# EAGLE library part MOLEX-47491-0001 (library Conservify)
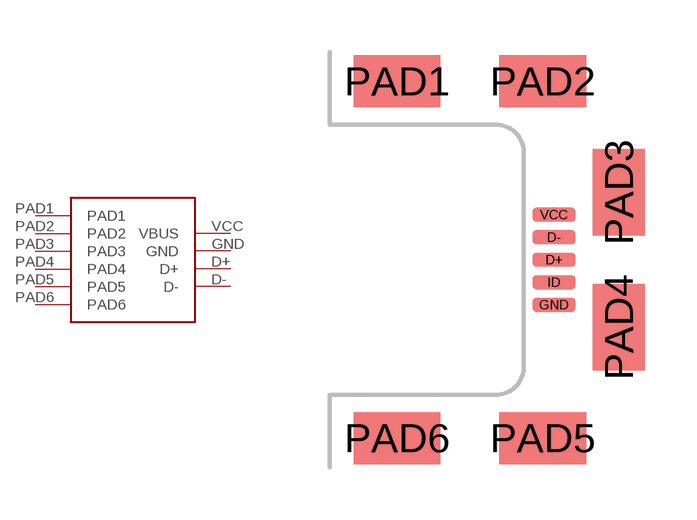
[diagram p1: symbol with the pads of MOELX-47491-0001; footprint MOELX-47491-0001]

Designator prefix -

## MOLEX-47491-0001  [MOELX-47491-0001]
D+  D+
D-  D-
GND  GND
PAD1  PAD1
PAD2  PAD2
PAD3  PAD3
PAD4  PAD4
PAD5  PAD5
PAD6  PAD6
VCC  VBUS

## Footprint MOELX-47491-0001 (pad centres in mm)
smd 1.25 x 0.4: D+ 0.875,0; D- 0.875,0.65; GND 0.875,-1.3; ID 0.875,-0.65; VCC 0.875,1.3
smd 2.5 x 1.5: PAD1 -3.65,5.15; PAD2 0.55,5.15; PAD5 0.55,-5.15; PAD6 -3.65,-5.15
smd 1.5 x 2.5: PAD3 2.75,1.95; PAD4 2.75,-1.95